# Altium schematic symbol library 5到12V升压电路设计.SCHLIB: 7 symbols
Pins are listed as number, name and electrical type; pins without a type are passive.

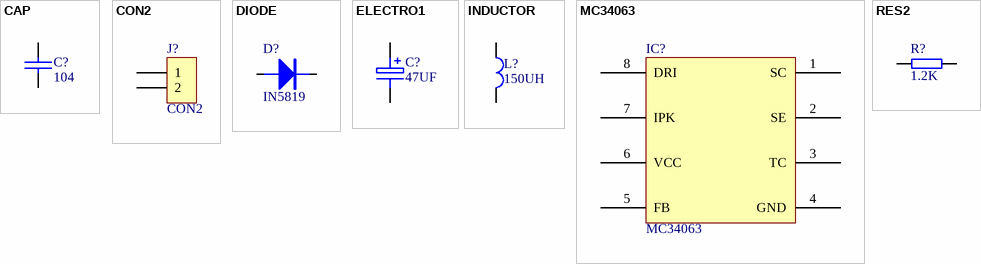
[diagram p0: symbols CAP to RES2]

## CAP
designator C?, comment 104
Capacitor
footprint RAD0.1
footprint RAD0.2
footprint R/C0805
footprint R/C1206
footprint R/C0805
pins: 1, 2

## CON2
designator J?
Connector
footprint SIP2
footprint 5.08-S201
pins: 1, 2

## DIODE
designator D?, comment IN5819
footprint DIODE0.4
footprint DIODE0.3
footprint DIODE0.2
footprint D190
footprint D1206
pins: A, K

## ELECTRO1
designator C?, comment 47UF
Electrolytic Capacitor
footprint RB.1/.2
footprint RB.2/.4
pins: 1, 2

## INDUCTOR
designator L?, comment 150UH
footprint AXIAL0.4
footprint R/C0805
pins: 1, 2

## MC34063
designator IC?
footprint DIP8
pins: 1 SC, 2 SE, 3 TC, 4 GND, 5 FB, 6 VCC, 7 IPK, 8 DRI

## RES2
designator R?, comment 1.2K
footprint AXIAL0.3
footprint AXIAL0.4
footprint AXIAL0.1
footprint AXIAL1.0
footprint R/C0805
footprint R/C0805
pins: 1, 2